# Altium footprint library Footprint_LCD_Modules.PcbLib: 1 footprints
Each footprint in its own frame and in the unit in brackets; x right, y up, seen from the top. Pads: shape width x height; smd on the part's side, far side on the other; paste and mask are expansions set on the pad; w line width, h text height; cw(c..) or ccw(c..) is an arc to the next point about the centre after c.
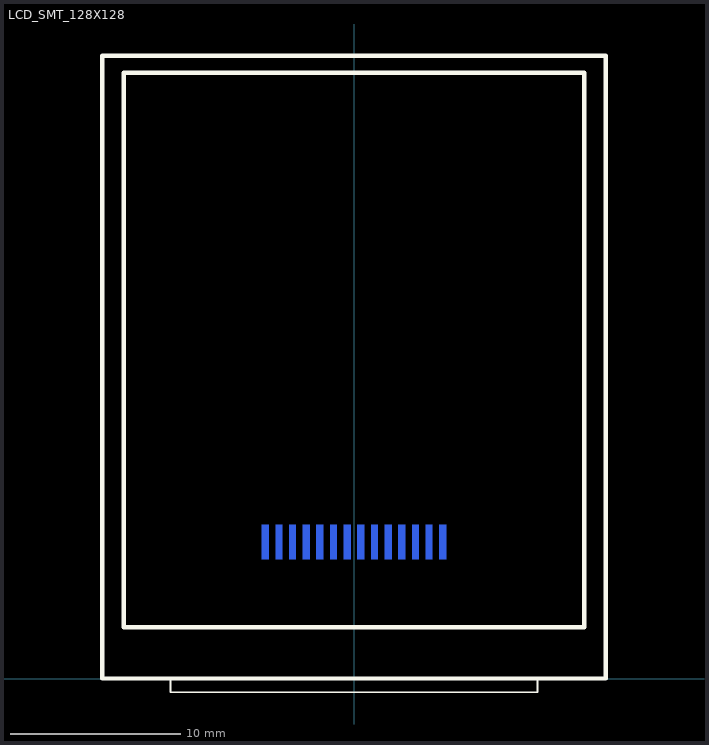
[diagram p0: the footprint, top view; thin cyan lines are the x and y axes]

## LCD_SMT_128X128 [mm] "128 x 128 pixels surface mount display"
height 2
pads (14):
  rect 0.4x2 smd far side: 1(5.2,8) 2(4.4,8) 3(3.6,8) 4(2.8,8) 5(2,8) 6(1.2,8) 7(0.4,8) 8(-0.4,8) 9(-1.2,8) 10(-2,8) 11(-2.8,8) 12(-3.6,8) 13(-4.4,8) 14(-5.2,8)
Top Overlay:
  lines w0.1: -10.75,-0.082 -10.75,-0.8 10.75,-0.8 10.75,-0.045
  lines w0.254: -14.75,0 -14.75,36.5 14.75,36.5 14.75,0 -14.75,0 ; -13.5,3 13.5,3 13.5,35.5 -13.5,35.5 -13.5,3
Bottom Overlay:
  lines w0.1: -10.75,5.8 -10.75,7.8 -5.8,7.8 ; 5.8,7.8 10.75,7.8 10.75,5.8